# Altium footprint library RK319.PcbLib: 1 footprints
Each footprint in its own frame and in the unit in brackets; x right, y up, seen from the top. Pads: shape width x height; smd on the part's side, far side on the other; paste and mask are expansions set on the pad; w line width, h text height; cw(c..) or ccw(c..) is an arc to the next point about the centre after c.
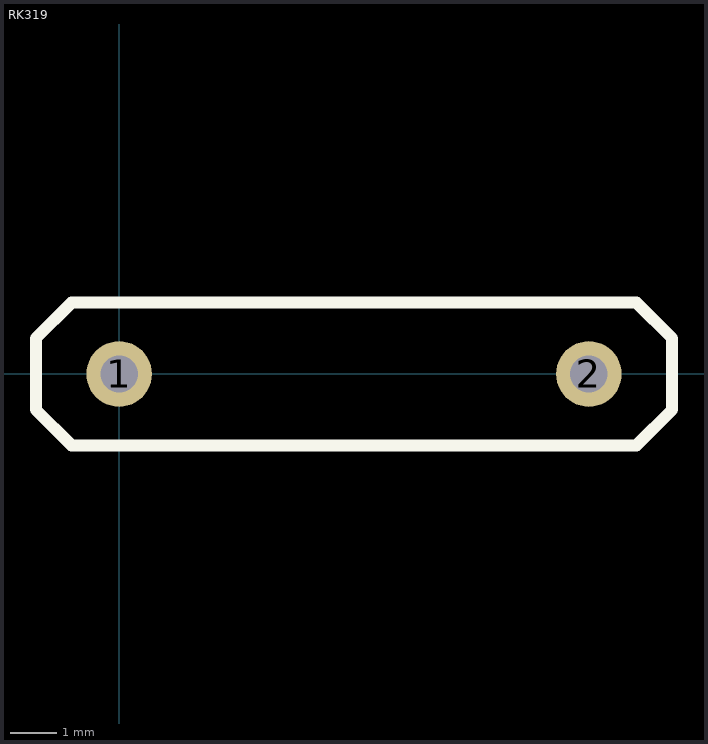
[diagram p0: the footprint, top view; thin cyan lines are the x and y axes]

## RK319 [mm]
pads (2):
  round 1.4 hole 0.8: 1(0,0) 2(10.033,0)
Top Overlay:
  lines w0.254: -1.778,-0.762 -1.778,0.762 -1.016,1.524 11.049,1.524 11.811,0.762 11.811,-0.762 11.049,-1.524 -1.016,-1.524 -1.778,-0.762
3D body: height 3.6, standoff 0, extent -1.778,-1.524 11.811,1.524